# Altium footprint library Zynq7000.PcbLib: 8 footprints
Each footprint in its own frame and in the unit in brackets; x right, y up, seen from the top. Pads: shape width x height; smd on the part's side, far side on the other; paste and mask are expansions set on the pad; w line width, h text height; cw(c..) or ccw(c..) is an arc to the next point about the centre after c.
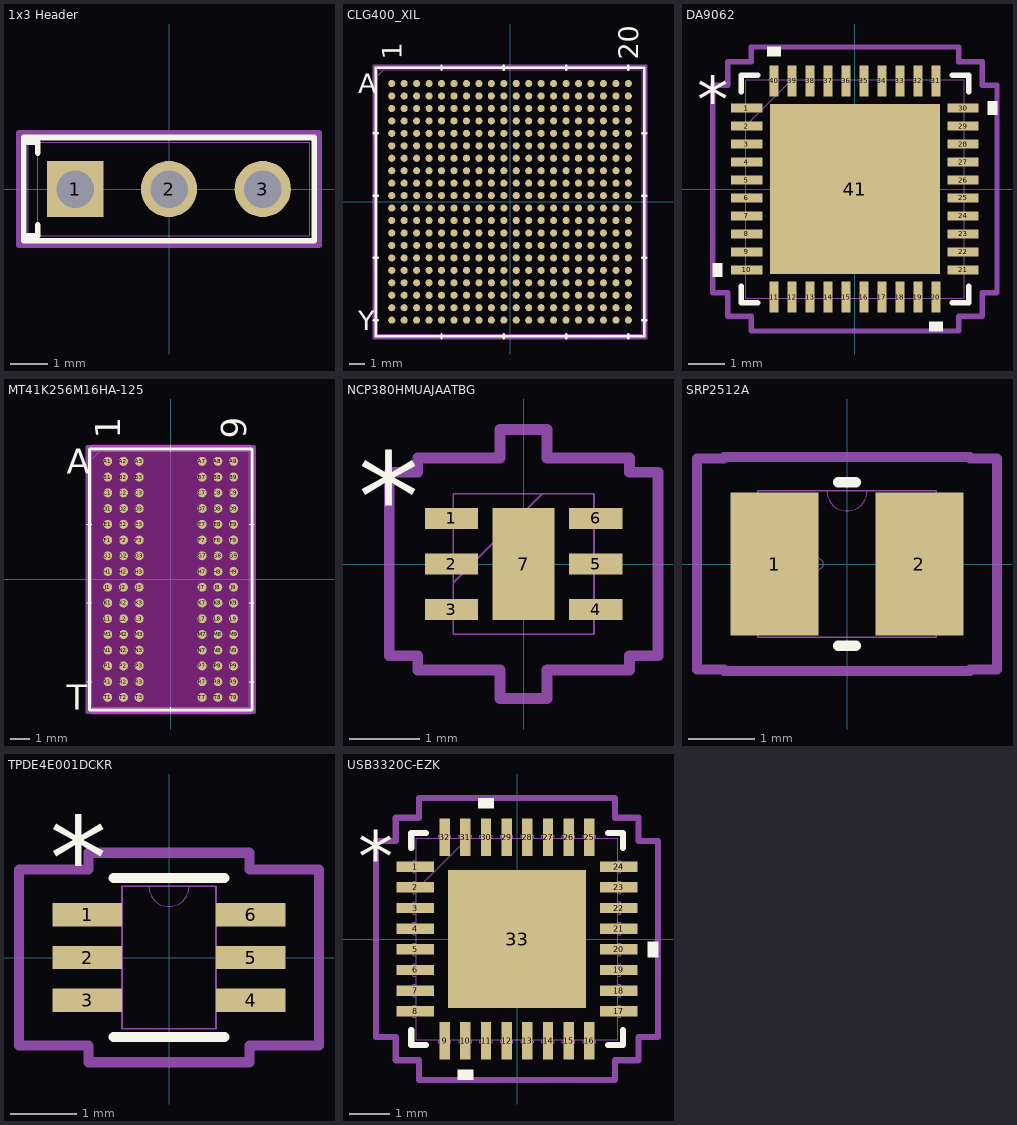
[diagram p0: the footprints below, top view; thin cyan lines are the x and y axes]

## 1x3 Header [mil]
pads (3):
  rect 60x60 / inner round 60 / far side rect 60x60 hole 40 paste-30 mask+0: 1(-100,0)
  round 60 hole 40 paste-30 mask+0: 2(0,0) 3(100,0)
Top Overlay:
  lines w6: -150,-50 -140,-50 -140,-38.46 ; -150,50 -140,50 -140,38.46 ; -155,-55 155,-55 155,55 -155,55 -155,-55
Mechanical 13:
  lines w1: -150,-50 -140,-50 -140,50 -150,50 ; -150,-50 150,-50 150,50 -150,50 ; -150,-50 -150,50
Mechanical 15:
  lines w6: -160,-60 -160,60 160,60 160,-60 -160,-60
3D body "CON3_1X3_P100UM_HDR_TYC.step": height 374.02, standoff -200, extent -150,-50 150,50

## CLG400_XIL [mil]
pads (400):
  round 18 smd paste+0 mask+0: A1(-299.21,299.21) A2(-267.72,299.21) A3(-236.22,299.21) A4(-204.72,299.21) A5(-173.23,299.21) A6(-141.73,299.21) A7(-110.24,299.21) A8(-78.74,299.21) A9(-47.24,299.21) A10(-15.75,299.21) A11(15.75,299.21) A12(47.24,299.21) A13(78.74,299.21) A14(110.24,299.21) A15(141.73,299.21) A16(173.23,299.21) A17(204.72,299.21) A18(236.22,299.21) A19(267.72,299.21) A20(299.21,299.21) B1(-299.21,267.72) B2(-267.72,267.72) B3(-236.22,267.72) B4(-204.72,267.72) B5(-173.23,267.72) B6(-141.73,267.72) B7(-110.24,267.72) B8(-78.74,267.72) B9(-47.24,267.72) B10(-15.75,267.72) B11(15.75,267.72) B12(47.24,267.72) B13(78.74,267.72) B14(110.24,267.72) B15(141.73,267.72) B16(173.23,267.72) B17(204.72,267.72) B18(236.22,267.72) B19(267.72,267.72) B20(299.21,267.72) C1(-299.21,236.22) C2(-267.72,236.22) C3(-236.22,236.22) C4(-204.72,236.22) C5(-173.23,236.22) C6(-141.73,236.22) C7(-110.24,236.22) C8(-78.74,236.22) C9(-47.24,236.22) C10(-15.75,236.22) C11(15.75,236.22) C12(47.24,236.22) C13(78.74,236.22) C14(110.24,236.22) C15(141.73,236.22) C16(173.23,236.22) C17(204.72,236.22) C18(236.22,236.22) C19(267.72,236.22) C20(299.21,236.22) D1(-299.21,204.72) D2(-267.72,204.72) D3(-236.22,204.72) D4(-204.72,204.72) D5(-173.23,204.72) D6(-141.73,204.72) D7(-110.24,204.72) D8(-78.74,204.72) D9(-47.24,204.72) D10(-15.75,204.72) D11(15.75,204.72) D12(47.24,204.72) D13(78.74,204.72) D14(110.24,204.72) D15(141.73,204.72) D16(173.23,204.72) D17(204.72,204.72) D18(236.22,204.72) D19(267.72,204.72) D20(299.21,204.72) E1(-299.21,173.23) E2(-267.72,173.23) E3(-236.22,173.23) E4(-204.72,173.23) E5(-173.23,173.23) E6(-141.73,173.23) E7(-110.24,173.23) E8(-78.74,173.23) E9(-47.24,173.23) E10(-15.75,173.23) E11(15.75,173.23) E12(47.24,173.23) E13(78.74,173.23) E14(110.24,173.23) E15(141.73,173.23) E16(173.23,173.23) E17(204.72,173.23) E18(236.22,173.23) E19(267.72,173.23) E20(299.21,173.23) F1(-299.21,141.73) F2(-267.72,141.73) F3(-236.22,141.73) F4(-204.72,141.73) F5(-173.23,141.73) F6(-141.73,141.73) F7(-110.24,141.73) F8(-78.74,141.73) F9(-47.24,141.73) F10(-15.75,141.73) F11(15.75,141.73) F12(47.24,141.73) F13(78.74,141.73) F14(110.24,141.73) F15(141.73,141.73) F16(173.23,141.73) F17(204.72,141.73) F18(236.22,141.73) F19(267.72,141.73) F20(299.21,141.73) G1(-299.21,110.24) G2(-267.72,110.24) G3(-236.22,110.24) G4(-204.72,110.24) G5(-173.23,110.24) G6(-141.73,110.24) G7(-110.24,110.24) G8(-78.74,110.24) G9(-47.24,110.24) G10(-15.75,110.24) G11(15.75,110.24) G12(47.24,110.24) G13(78.74,110.24) G14(110.24,110.24) G15(141.73,110.24) G16(173.23,110.24) G17(204.72,110.24) G18(236.22,110.24) G19(267.72,110.24) G20(299.21,110.24) H1(-299.21,78.74) H2(-267.72,78.74) H3(-236.22,78.74) H4(-204.72,78.74) H5(-173.23,78.74) H6(-141.73,78.74) H7(-110.24,78.74) H8(-78.74,78.74) H9(-47.24,78.74) H10(-15.75,78.74) H11(15.75,78.74) H12(47.24,78.74) H13(78.74,78.74) H14(110.24,78.74) H15(141.73,78.74) H16(173.23,78.74) H17(204.72,78.74) H18(236.22,78.74) H19(267.72,78.74) H20(299.21,78.74) J1(-299.21,47.24) J2(-267.72,47.24) J3(-236.22,47.24) J4(-204.72,47.24) J5(-173.23,47.24) J6(-141.73,47.24) J7(-110.24,47.24) J8(-78.74,47.24) J9(-47.24,47.24) J10(-15.75,47.24) J11(15.75,47.24) J12(47.24,47.24) J13(78.74,47.24) J14(110.24,47.24) J15(141.73,47.24) J16(173.23,47.24) J17(204.72,47.24) J18(236.22,47.24) J19(267.72,47.24) J20(299.21,47.24) K1(-299.21,15.75) K2(-267.72,15.75) K3(-236.22,15.75) K4(-204.72,15.75) K5(-173.23,15.75) K6(-141.73,15.75) K7(-110.24,15.75) K8(-78.74,15.75) K9(-47.24,15.75) K10(-15.75,15.75) K11(15.75,15.75) K12(47.24,15.75) K13(78.74,15.75) K14(110.24,15.75) K15(141.73,15.75) K16(173.23,15.75) K17(204.72,15.75) K18(236.22,15.75) K19(267.72,15.75) K20(299.21,15.75) L1(-299.21,-15.75) L2(-267.72,-15.75) L3(-236.22,-15.75) L4(-204.72,-15.75) L5(-173.23,-15.75) L6(-141.73,-15.75) L7(-110.24,-15.75) L8(-78.74,-15.75) L9(-47.24,-15.75) L10(-15.75,-15.75) L11(15.75,-15.75) L12(47.24,-15.75) L13(78.74,-15.75) L14(110.24,-15.75) L15(141.73,-15.75) L16(173.23,-15.75) L17(204.72,-15.75) L18(236.22,-15.75) L19(267.72,-15.75) L20(299.21,-15.75) M1(-299.21,-47.24) M2(-267.72,-47.24) M3(-236.22,-47.24) M4(-204.72,-47.24) M5(-173.23,-47.24) M6(-141.73,-47.24) M7(-110.24,-47.24) M8(-78.74,-47.24) M9(-47.24,-47.24) M10(-15.75,-47.24) M11(15.75,-47.24) M12(47.24,-47.24) M13(78.74,-47.24) M14(110.24,-47.24) M15(141.73,-47.24) M16(173.23,-47.24) M17(204.72,-47.24) M18(236.22,-47.24) M19(267.72,-47.24) M20(299.21,-47.24) N1(-299.21,-78.74) N2(-267.72,-78.74) N3(-236.22,-78.74) N4(-204.72,-78.74) N5(-173.23,-78.74) N6(-141.73,-78.74) N7(-110.24,-78.74) N8(-78.74,-78.74) N9(-47.24,-78.74) N10(-15.75,-78.74) N11(15.75,-78.74) N12(47.24,-78.74) N13(78.74,-78.74) N14(110.24,-78.74) N15(141.73,-78.74) N16(173.23,-78.74) N17(204.72,-78.74) N18(236.22,-78.74) N19(267.72,-78.74) N20(299.21,-78.74) P1(-299.21,-110.24) P2(-267.72,-110.24) P3(-236.22,-110.24) P4(-204.72,-110.24) P5(-173.23,-110.24) P6(-141.73,-110.24) P7(-110.24,-110.24) P8(-78.74,-110.24) P9(-47.24,-110.24) P10(-15.75,-110.24) P11(15.75,-110.24) P12(47.24,-110.24) P13(78.74,-110.24) P14(110.24,-110.24) P15(141.73,-110.24) P16(173.23,-110.24) P17(204.72,-110.24) P18(236.22,-110.24) P19(267.72,-110.24) P20(299.21,-110.24) R1(-299.21,-141.73) R2(-267.72,-141.73) R3(-236.22,-141.73) R4(-204.72,-141.73) R5(-173.23,-141.73) R6(-141.73,-141.73) R7(-110.24,-141.73) R8(-78.74,-141.73) R9(-47.24,-141.73) R10(-15.75,-141.73) R11(15.75,-141.73) R12(47.24,-141.73) R13(78.74,-141.73) R14(110.24,-141.73) R15(141.73,-141.73) R16(173.23,-141.73) R17(204.72,-141.73) R18(236.22,-141.73) R19(267.72,-141.73) R20(299.21,-141.73) T1(-299.21,-173.23) T2(-267.72,-173.23) T3(-236.22,-173.23) T4(-204.72,-173.23) T5(-173.23,-173.23) T6(-141.73,-173.23) T7(-110.24,-173.23) T8(-78.74,-173.23) T9(-47.24,-173.23) T10(-15.75,-173.23) T11(15.75,-173.23) T12(47.24,-173.23) T13(78.74,-173.23) T14(110.24,-173.23) T15(141.73,-173.23) T16(173.23,-173.23) T17(204.72,-173.23) T18(236.22,-173.23) T19(267.72,-173.23) T20(299.21,-173.23) U1(-299.21,-204.72) U2(-267.72,-204.72) U3(-236.22,-204.72) U4(-204.72,-204.72) U5(-173.23,-204.72) U6(-141.73,-204.72) U7(-110.24,-204.72) U8(-78.74,-204.72) U9(-47.24,-204.72) U10(-15.75,-204.72) U11(15.75,-204.72) U12(47.24,-204.72) U13(78.74,-204.72) U14(110.24,-204.72) U15(141.73,-204.72) U16(173.23,-204.72) U17(204.72,-204.72) U18(236.22,-204.72) U19(267.72,-204.72) U20(299.21,-204.72) V1(-299.21,-236.22) V2(-267.72,-236.22) V3(-236.22,-236.22) V4(-204.72,-236.22) V5(-173.23,-236.22) V6(-141.73,-236.22) V7(-110.24,-236.22) V8(-78.74,-236.22) V9(-47.24,-236.22) V10(-15.75,-236.22) V11(15.75,-236.22) V12(47.24,-236.22) V13(78.74,-236.22) V14(110.24,-236.22) V15(141.73,-236.22) V16(173.23,-236.22) V17(204.72,-236.22) V18(236.22,-236.22) V19(267.72,-236.22) V20(299.21,-236.22) W1(-299.21,-267.72) W2(-267.72,-267.72) W3(-236.22,-267.72) W4(-204.72,-267.72) W5(-173.23,-267.72) W6(-141.73,-267.72) W7(-110.24,-267.72) W8(-78.74,-267.72) W9(-47.24,-267.72) W10(-15.75,-267.72) W11(15.75,-267.72) W12(47.24,-267.72) W13(78.74,-267.72) W14(110.24,-267.72) W15(141.73,-267.72) W16(173.23,-267.72) W17(204.72,-267.72) W18(236.22,-267.72) W19(267.72,-267.72) W20(299.21,-267.72) Y1(-299.21,-299.21) Y2(-267.72,-299.21) Y3(-236.22,-299.21) Y4(-204.72,-299.21) Y5(-173.23,-299.21) Y6(-141.73,-299.21) Y7(-110.24,-299.21) Y8(-78.74,-299.21) Y9(-47.24,-299.21) Y10(-15.75,-299.21) Y11(15.75,-299.21) Y12(47.24,-299.21) Y13(78.74,-299.21) Y14(110.24,-299.21) Y15(141.73,-299.21) Y16(173.23,-299.21) Y17(204.72,-299.21) Y18(236.22,-299.21) Y19(267.72,-299.21) Y20(299.21,-299.21)
Top Overlay:
  lines w6: -344.5,-299.21 -334.5,-299.21 ; -344.5,-141.73 -334.5,-141.73 ; -344.5,15.75 -334.5,15.75 ; -344.5,173.23 -334.5,173.23 ; -173.23,-344.5 -173.23,-334.5 ; -173.23,334.5 -173.23,344.5 ; -15.75,-344.5 -15.75,-334.5 ; -15.75,334.5 -15.75,344.5 ; 141.73,-344.5 141.73,-334.5 ; 141.73,334.5 141.73,344.5 ; 299.21,-344.5 299.21,-334.5 ; 299.21,334.5 299.21,344.5 ; 334.5,-299.21 344.5,-299.21 ; 334.5,-141.73 344.5,-141.73 ; 334.5,15.75 344.5,15.75 ; 334.5,173.23 344.5,173.23 ; -339.5,-339.5 339.5,-339.5 339.5,339.5 -339.5,339.5 -339.5,-339.5
  text "A" at -384.5,274.21 h50
  text "Y" at -384.5,-324.21 h50
  text "1" at -274.21,359.5 h50
  text "20" at 324.21,359.5 h50
Bottom Overlay:
  text "A" at -359.5,274.21 h50
  text "Y" at -359.5,-324.21 h50
  text "1" at -324.21,359.5 h50
  text "20" at 274.21,359.5 h50
Mechanical 13:
  lines w1: -334.5,318.75 -318.75,334.5 ; -334.5,-334.5 334.5,-334.5 334.5,334.5 -334.5,334.5 -334.5,-334.5
  text "A" at -384.5,274.21 h50
  text "Y" at -384.5,-324.21 h50
  text "1" at -274.21,359.5 h50
  text "20" at 324.21,359.5 h50
Mechanical 15:
  lines w6: -344.5,-344.5 -344.5,344.5 344.5,344.5 344.5,-344.5 -344.5,-344.5
3D body "CLG400_XIL.step": height 63.11, standoff -0.02, extent -334.49,-334.49 334.49,334.49

## DA9062 [mil]
pads (41):
  rect 34x10 smd paste+0 mask+0: 1(-118.5,88.61) 2(-118.5,68.92) 3(-118.5,49.23) 4(-118.5,29.54) 5(-118.5,9.85) 6(-118.5,-9.85) 7(-118.5,-29.54) 8(-118.5,-49.23) 9(-118.5,-68.92) 10(-118.5,-88.61) 21(118.5,-88.61) 22(118.5,-68.92) 23(118.5,-49.23) 24(118.5,-29.54) 25(118.5,-9.85) 26(118.5,9.85) 27(118.5,29.54) 28(118.5,49.23) 29(118.5,68.92) 30(118.5,88.61)
  rect 10x34 smd paste+0 mask+0: 11(-88.61,-118.5) 12(-68.92,-118.5) 13(-49.23,-118.5) 14(-29.54,-118.5) 15(-9.85,-118.5) 16(9.85,-118.5) 17(29.54,-118.5) 18(49.23,-118.5) 19(68.92,-118.5) 20(88.61,-118.5) 31(88.61,118.5) 32(68.92,118.5) 33(49.23,118.5) 34(29.54,118.5) 35(9.85,118.5) 36(-9.85,118.5) 37(-29.54,118.5) 38(-49.23,118.5) 39(-68.92,118.5) 40(-88.61,118.5)
  rect 186x186 smd paste-92.5 mask+0: 41(0,0)
Top Overlay:
  region: -145.5,-81.11 -155.5,-81.11 -155.5,-96.11 -145.5,-96.11
  region: 96.11,-145.5 81.11,-145.5 81.11,-155.5 96.11,-155.5
  region: 145.5,96.11 155.5,96.11 155.5,81.11 145.5,81.11
  region: -81.11,145.5 -96.11,145.5 -96.11,155.5 -81.11,155.5
  lines w6: -124.5,-106.7 -124.5,-124.5 -106.7,-124.5 ; -124.5,106.7 -124.5,124.5 -106.7,124.5 ; 106.7,-124.5 124.5,-124.5 124.5,-106.7 ; 106.7,124.5 124.5,124.5 124.5,106.7
  text "*" at -173,73.45 h50
Top Paste:
  region: -34.94,89.06 -89.06,89.06 -89.06,34.94 -34.94,34.94
  region: -34.94,27.06 -89.06,27.06 -89.06,-27.06 -34.94,-27.06
  region: -34.94,-34.94 -89.06,-34.94 -89.06,-89.06 -34.94,-89.06
  region: 27.06,89.06 -27.06,89.06 -27.06,34.94 27.06,34.94
  region: 27.06,27.06 -27.06,27.06 -27.06,-27.06 27.06,-27.06
  region: 27.06,-34.94 -27.06,-34.94 -27.06,-89.06 27.06,-89.06
  region: 89.06,89.06 34.94,89.06 34.94,34.94 89.06,34.94
  region: 89.06,27.06 34.94,27.06 34.94,-27.06 89.06,-27.06
  region: 89.06,-34.94 34.94,-34.94 34.94,-89.06 89.06,-89.06
Mechanical 13:
  lines w1: -119.5,69.5 -69.5,119.5 ; -119.5,-119.5 119.5,-119.5 119.5,119.5 -119.5,119.5 -119.5,-119.5 ; -119.5,-94.61 -119.5,-82.61 -119.5,-94.61 ; -119.5,-74.92 -119.5,-62.91 -119.5,-74.92 ; -119.5,-55.23 -119.5,-43.23 -119.5,-55.23 ; -119.5,-35.53 -119.5,-23.54 -119.5,-35.53 ; -119.5,-15.85 -119.5,-3.85 -119.5,-15.85 ; -119.5,3.85 -119.5,15.85 -119.5,3.85 ; -119.5,23.54 -119.5,35.53 -119.5,23.54 ; -119.5,43.23 -119.5,55.23 -119.5,43.23 ; -119.5,62.91 -119.5,74.92 -119.5,62.91 ; -119.5,82.61 -119.5,94.61 -119.5,82.61 ; -94.61,-119.5 -82.61,-119.5 -94.61,-119.5 ; -94.61,119.5 -82.61,119.5 -94.61,119.5 ; -74.92,-119.5 -62.91,-119.5 -74.92,-119.5 ; -74.92,119.5 -62.91,119.5 -74.92,119.5 ; -55.23,-119.5 -43.23,-119.5 -55.23,-119.5 ; -55.23,119.5 -43.23,119.5 -55.23,119.5 ; -35.53,-119.5 -23.54,-119.5 -35.53,-119.5 ; -35.53,119.5 -23.54,119.5 -35.53,119.5 ; -15.85,-119.5 -3.85,-119.5 -15.85,-119.5 ; -15.85,119.5 -3.85,119.5 -15.85,119.5 ; 3.85,-119.5 15.85,-119.5 3.85,-119.5 ; 3.85,119.5 15.85,119.5 3.85,119.5 ; 23.54,-119.5 35.53,-119.5 23.54,-119.5 ; 23.54,119.5 35.53,119.5 23.54,119.5 ; 43.23,-119.5 55.23,-119.5 43.23,-119.5 ; 43.23,119.5 55.23,119.5 43.23,119.5 ; 62.91,-119.5 74.92,-119.5 62.91,-119.5 ; 62.91,119.5 74.92,119.5 62.91,119.5 ; 82.61,-119.5 94.61,-119.5 82.61,-119.5 ; 82.61,119.5 94.61,119.5 82.61,119.5 ; 119.5,-94.61 119.5,-82.61 119.5,-94.61 ; 119.5,-74.92 119.5,-62.91 119.5,-74.92 ; 119.5,-55.23 119.5,-43.23 119.5,-55.23 ; 119.5,-35.53 119.5,-23.54 119.5,-35.53 ; 119.5,-15.85 119.5,-3.85 119.5,-15.85 ; 119.5,3.85 119.5,15.85 119.5,3.85 ; 119.5,23.54 119.5,35.53 119.5,23.54 ; 119.5,43.23 119.5,55.23 119.5,43.23 ; 119.5,62.91 119.5,74.92 119.5,62.91 ; 119.5,82.61 119.5,94.61 119.5,82.61
  text "*" at -114,73.45 h50
Mechanical 15:
  lines w6: -155.5,-113.61 -139.5,-113.61 -139.5,-139.5 -113.61,-139.5 -113.61,-155.5 113.61,-155.5 113.61,-139.5 139.5,-139.5 139.5,-113.61 155.5,-113.61 155.5,113.61 139.5,113.61 139.5,139.5 113.61,139.5 113.61,155.5 -113.61,155.5 -113.61,139.5 -139.5,139.5 -139.5,113.61 -155.5,113.61 -155.5,-113.61
3D body "QFN_62-00AM1_REN.step": height 35.12, standoff 0, extent -119.49,-119.49 119.49,119.49

## MT41K256M16HA-125 [mil]
pads (96):
  round 18 smd paste+0 mask+0: A1(-125.98,236.22) A2(-94.49,236.22) A3(-62.99,236.22) A7(62.99,236.22) A8(94.49,236.22) A9(125.98,236.22) B1(-125.98,204.72) B2(-94.49,204.72) B3(-62.99,204.72) B7(62.99,204.72) B8(94.49,204.72) B9(125.98,204.72) C1(-125.98,173.23) C2(-94.49,173.23) C3(-62.99,173.23) C7(62.99,173.23) C8(94.49,173.23) C9(125.98,173.23) D1(-125.98,141.73) D2(-94.49,141.73) D3(-62.99,141.73) D7(62.99,141.73) D8(94.49,141.73) D9(125.98,141.73) E1(-125.98,110.24) E2(-94.49,110.24) E3(-62.99,110.24) E7(62.99,110.24) E8(94.49,110.24) E9(125.98,110.24) F1(-125.98,78.74) F2(-94.49,78.74) F3(-62.99,78.74) F7(62.99,78.74) F8(94.49,78.74) F9(125.98,78.74) G1(-125.98,47.24) G2(-94.49,47.24) G3(-62.99,47.24) G7(62.99,47.24) G8(94.49,47.24) G9(125.98,47.24) H1(-125.98,15.75) H2(-94.49,15.75) H3(-62.99,15.75) H7(62.99,15.75) H8(94.49,15.75) H9(125.98,15.75) J1(-125.98,-15.75) J2(-94.49,-15.75) J3(-62.99,-15.75) J7(62.99,-15.75) J8(94.49,-15.75) J9(125.98,-15.75) K1(-125.98,-47.24) K2(-94.49,-47.24) K3(-62.99,-47.24) K7(62.99,-47.24) K8(94.49,-47.24) K9(125.98,-47.24) L1(-125.98,-78.74) L2(-94.49,-78.74) L3(-62.99,-78.74) L7(62.99,-78.74) L8(94.49,-78.74) L9(125.98,-78.74) M1(-125.98,-110.24) M2(-94.49,-110.24) M3(-62.99,-110.24) M7(62.99,-110.24) M8(94.49,-110.24) M9(125.98,-110.24) N1(-125.98,-141.73) N2(-94.49,-141.73) N3(-62.99,-141.73) N7(62.99,-141.73) N8(94.49,-141.73) N9(125.98,-141.73) P1(-125.98,-173.23) P2(-94.49,-173.23) P3(-62.99,-173.23) P7(62.99,-173.23) P8(94.49,-173.23) P9(125.98,-173.23) R1(-125.98,-204.72) R2(-94.49,-204.72) R3(-62.99,-204.72) R7(62.99,-204.72) R8(94.49,-204.72) R9(125.98,-204.72) T1(-125.98,-236.22) T2(-94.49,-236.22) T3(-62.99,-236.22) T7(62.99,-236.22) T8(94.49,-236.22) T9(125.98,-236.22)
Top Overlay:
  lines w1: -167.5,-204.72 -157.5,-204.72 ; -167.5,-47.24 -157.5,-47.24 ; -167.5,110.24 -157.5,110.24 ; 0,-266 0,-256 ; 0,256 0,266 ; 157.5,-204.72 167.5,-204.72 ; 157.5,-47.24 167.5,-47.24 ; 157.5,110.24 167.5,110.24
  lines w6: -162.5,-261 -162.5,261 162.5,261 162.5,-261 -162.5,-261
  text "9" at 150.98,281 h50
  text "1" at -100.98,281 h50
  text "T" at -207.5,-261.22 h50
  text "A" at -207.5,211.22 h50
Bottom Overlay:
  text "9" at 100.98,281 h50
  text "1" at -150.98,281 h50
  text "T" at -182.5,-261.22 h50
  text "A" at -182.5,211.22 h50
Keep-Out Layer:
  region: -159.23,-269.47 -159.23,269.47 159.23,269.47 159.23,-269.47
Mechanical 13:
  lines w1: -157.5,240.25 -141.75,256 ; -157.5,-256 -157.5,256 157.5,256 157.5,-256 -157.5,-256
  text "9" at 150.98,281 h50
  text "1" at -100.98,281 h50
  text "T" at -207.5,-261.22 h50
  text "A" at -207.5,211.22 h50
Mechanical 15:
  lines w6: -167.5,-266 167.5,-266 167.5,266 -167.5,266 -167.5,-266
3D body "FBGA96_9X14_MRN.step": height 39.09, standoff 0.02, extent -157.48,-255.98 157.48,255.98

## NCP380HMUAJAATBG [mil]
pads (7):
  rect 30x12 smd paste+0 mask+0: 1(-40.5,25.59) 2(-40.5,0) 3(-40.5,-25.59) 4(40.5,-25.59) 5(40.5,0) 6(40.5,25.59)
  rect 35x63 smd paste+0 mask+0: 7(0,0)
Top Overlay:
  text "*" at -93,13.39 h50
Mechanical 13:
  lines w1: -39.5,-10.5 10.5,39.5 ; -39.5,-39.5 -39.5,39.5 39.5,39.5 39.5,-39.5 -39.5,-39.5 ; -39.5,-32.59 -39.5,-18.59 -39.5,-32.59 ; -39.5,-7 -39.5,7 -39.5,-7 ; -39.5,18.59 -39.5,32.59 -39.5,18.59 ; 39.5,-32.59 39.5,-18.59 39.5,-32.59 ; 39.5,-7 39.5,7 39.5,-7 ; 39.5,18.59 39.5,32.59 39.5,18.59
  text "*" at -38,13.39 h50
Mechanical 15:
  lines w6: -75.5,-51.59 -75.5,51.59 -59.5,51.59 -59.5,59.5 -13.2,59.5 -13.2,75.5 13.2,75.5 13.2,59.5 59.5,59.5 59.5,51.59 75.5,51.59 75.5,-51.59 59.5,-51.59 59.5,-59.5 13.2,-59.5 13.2,-75.5 -13.2,-75.5 -13.2,-59.5 -59.5,-59.5 -59.5,-51.59 -75.5,-51.59
3D body "UDFN6_2X2_ONS.step": height 22.09, standoff 0, extent -39.49,-39.49 39.49,39.49

## SRP2512A [mil]
pads (2):
  rect 52x85 smd paste+0 mask+0: 1(-43,0) 2(43,0)
Top Overlay:
  lines w6: -5.35,-48.5 5.35,-48.5 ; -5.35,48.5 5.35,48.5
Mechanical 13:
  circle w0: c-17,0 r3
  lines w0: -12,43.5 ccw(c0,43.5) 12,43.5
  lines w1: -53,-43.5 -53,43.5 53,43.5 53,-43.5 -53,-43.5
Mechanical 15:
  lines w6: -89,-62.5 -73,-62.5 -73,-63.5 73,-63.5 73,-62.5 89,-62.5 89,62.5 73,62.5 73,63.5 -73,63.5 -73,62.5 -89,62.5 -89,-62.5
3D body "IND_SRP2512_BRN.step": height 47.09, standoff 0, extent -52.99,-43.5 52.99,43.5

## TPDE4E001DCKR [mil]
pads (6):
  rect 41.5x14 smd paste+0 mask+0: 1(-48.75,25.59) 2(-48.75,0) 3(-48.75,-25.59) 4(48.75,-25.59) 5(48.75,0) 6(48.75,25.59)
Top Overlay:
  lines w6: -33,-47.5 33,-47.5 ; -33,47.5 33,47.5
  text "*" at -71.25,34.59 h50
Mechanical 13:
  lines w0: -12,42.5 ccw(c0,42.5) 12,42.5
  lines w1: -47.5,-31.59 -47.5,-19.59 -28,-19.59 -28,-31.59 -47.5,-31.59 ; -47.5,-6 -47.5,6 -28,6 -28,-6 -47.5,-6 ; -47.5,19.59 -47.5,31.59 -28,31.59 -28,19.59 -47.5,19.59 ; -28,-42.5 28,-42.5 28,42.5 -28,42.5 -28,-42.5 ; 28,-31.59 28,-19.59 47.5,-19.59 47.5,-31.59 28,-31.59 ; 28,-6 28,6 47.5,6 47.5,-6 28,-6 ; 28,19.59 28,31.59 47.5,31.59 47.5,19.59 28,19.59
  text "*" at -25.5,-10.5 h50
Mechanical 15:
  lines w6: -89.5,-52.59 -89.5,52.59 -48,52.59 -48,62.5 48,62.5 48,52.59 89.5,52.59 89.5,-52.59 48,-52.59 48,-62.5 -48,-62.5 -48,-52.59 -89.5,-52.59
3D body "DCK6.step": height 43.11, standoff 0, extent -47.52,-42.52 47.52,42.52

## USB3320C-EZK [mil]
pads (33):
  rect 36x10 smd paste+0 mask+0: 1(-98.5,70) 2(-98.5,50) 3(-98.5,30) 4(-98.5,10) 5(-98.5,-10) 6(-98.5,-30) 7(-98.5,-50) 8(-98.5,-70) 17(98.5,-70) 18(98.5,-50) 19(98.5,-30) 20(98.5,-10) 21(98.5,10) 22(98.5,30) 23(98.5,50) 24(98.5,70)
  rect 10x36 smd paste+0 mask+0: 9(-70,-98.5) 10(-50,-98.5) 11(-30,-98.5) 12(-10,-98.5) 13(10,-98.5) 14(30,-98.5) 15(50,-98.5) 16(70,-98.5) 25(70,98.5) 26(50,98.5) 27(30,98.5) 28(10,98.5) 29(-10,98.5) 30(-30,98.5) 31(-50,98.5) 32(-70,98.5)
  rect 134x134 smd paste-66.5 mask-66.5: 33(0,0)
Top Overlay:
  region: -42.5,-126.5 -57.5,-126.5 -57.5,-136.5 -42.5,-136.5
  region: 126.5,-2.5 136.5,-2.5 136.5,-17.5 126.5,-17.5
  region: -22.5,126.5 -37.5,126.5 -37.5,136.5 -22.5,136.5
  lines w6: -102.5,-88.1 -102.5,-102.5 -88.1,-102.5 ; -102.5,88.1 -102.5,102.5 -88.1,102.5 ; 88.1,-102.5 102.5,-102.5 102.5,-88.1 ; 88.1,102.5 102.5,102.5 102.5,88.1
  text "*" at -154,55 h50
Top Paste:
  drawing of 25 lines, arcs and shapes, not listed
Top Solder:
  region: -69.5,54.37 -69.5,69.5 69.5,69.5 69.5,54.37
  region: -69.5,23.37 -69.5,38.63 69.5,38.63 69.5,23.37
  region: -69.5,-7.63 -69.5,7.63 69.5,7.63 69.5,-7.63
  region: -69.5,-38.63 -69.5,-23.37 69.5,-23.37 69.5,-38.63
  region: -69.5,-69.5 -69.5,-54.37 69.5,-54.37 69.5,-69.5
  region: -69.5,-69.5 -69.5,69.5 -54.37,69.5 -54.37,-69.5
  region: -23.37,-69.5 -23.37,69.5 -38.63,69.5 -38.63,-69.5
  region: 7.63,-69.5 7.63,69.5 -7.63,69.5 -7.63,-69.5
  region: 38.63,-69.5 38.63,69.5 23.37,69.5 23.37,-69.5
  region: 54.37,-69.5 54.37,69.5 69.5,69.5 69.5,-69.5
Mechanical 13:
  lines w1: -97.5,47.5 -47.5,97.5 ; -100.5,-76 -100.5,-64 -97.5,-64 -97.5,-76 -100.5,-76 ; -100.5,-56 -100.5,-44 -97.5,-44 -97.5,-56 -100.5,-56 ; -100.5,-36 -100.5,-24 -97.5,-24 -97.5,-36 -100.5,-36 ; -100.5,-16 -100.5,-4 -97.5,-4 -97.5,-16 -100.5,-16 ; -100.5,4 -100.5,16 -97.5,16 -97.5,4 -100.5,4 ; -100.5,24 -100.5,36 -97.5,36 -97.5,24 -100.5,24 ; -100.5,44 -100.5,56 -97.5,56 -97.5,44 -100.5,44 ; -100.5,64 -100.5,76 -97.5,76 -97.5,64 -100.5,64 ; -97.5,-97.5 97.5,-97.5 97.5,97.5 -97.5,97.5 -97.5,-97.5 ; -76,-100.5 -76,-97.5 -64,-97.5 -64,-100.5 -76,-100.5 ; -76,97.5 -64,97.5 -64,100.5 -76,100.5 -76,97.5 ; -56,-100.5 -56,-97.5 -44,-97.5 -44,-100.5 -56,-100.5 ; -56,97.5 -44,97.5 -44,100.5 -56,100.5 -56,97.5 ; -36,-100.5 -36,-97.5 -24,-97.5 -24,-100.5 -36,-100.5 ; -36,97.5 -24,97.5 -24,100.5 -36,100.5 -36,97.5 ; -16,-100.5 -16,-97.5 -4,-97.5 -4,-100.5 -16,-100.5 ; -16,97.5 -4,97.5 -4,100.5 -16,100.5 -16,97.5 ; 4,-100.5 4,-97.5 16,-97.5 16,-100.5 4,-100.5 ; 4,97.5 16,97.5 16,100.5 4,100.5 4,97.5 ; 24,-100.5 24,-97.5 36,-97.5 36,-100.5 24,-100.5 ; 24,97.5 36,97.5 36,100.5 24,100.5 24,97.5 ; 44,-100.5 44,-97.5 56,-97.5 56,-100.5 44,-100.5 ; 44,97.5 56,97.5 56,100.5 44,100.5 44,97.5 ; 64,-100.5 64,-97.5 76,-97.5 76,-100.5 64,-100.5 ; 64,97.5 76,97.5 76,100.5 64,100.5 64,97.5 ; 97.5,-76 97.5,-64 100.5,-64 100.5,-76 97.5,-76 ; 97.5,-56 97.5,-44 100.5,-44 100.5,-56 97.5,-56 ; 97.5,-36 97.5,-24 100.5,-24 100.5,-36 97.5,-36 ; 97.5,-16 97.5,-4 100.5,-4 100.5,-16 97.5,-16 ; 97.5,4 97.5,16 100.5,16 100.5,4 97.5,4 ; 97.5,24 97.5,36 100.5,36 100.5,24 97.5,24 ; 97.5,44 97.5,56 100.5,56 100.5,44 97.5,44 ; 97.5,64 97.5,76 100.5,76 100.5,64 97.5,64
  text "*" at -93,55 h50
Mechanical 15:
  lines w6: -136.5,-95 -117.5,-95 -117.5,-117.5 -95,-117.5 -95,-136.5 95,-136.5 95,-117.5 117.5,-117.5 117.5,-95 136.5,-95 136.5,95 117.5,95 117.5,117.5 95,117.5 95,136.5 -95,136.5 -95,117.5 -117.5,117.5 -117.5,95 -136.5,95 -136.5,-95
3D body "QFN32_5X5MC_MCH.step": height 65.12, standoff 0, extent -100.51,-100.51 100.51,100.51